# EAGLE library part CON_VFD_IV-6 (library ie13)
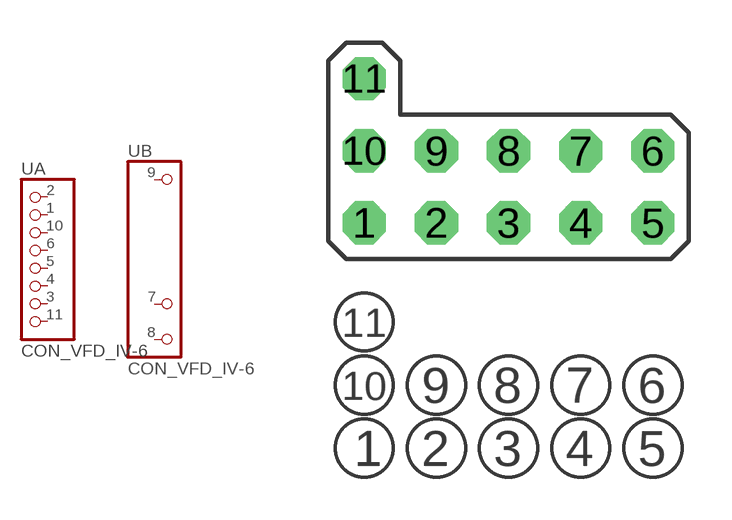
[diagram p0: symbol with the pads of CON_VFD; footprint CON_VFD]

Designator prefix -; gates A=VFD_SEG B=VFD_POW

## CON_VFD_IV-6  [CON_VFD]
1  A:1  pas
2  A:2  pas
3  A:3  pas
4  A:4  pas
5  A:5  pas
6  A:6  pas
7  B:7  pas
8  B:8  pas
9  B:9  pas
10  A:10  pas
11  A:11  pas

## Footprint CON_VFD (pad centres in mm)
PIN HEADER
drill 1.016 octagon: 1 -5.08,-1.27; 2 -2.54,-1.27; 3 0,-1.27; 4 2.54,-1.27; 5 5.08,-1.27; 6 5.08,1.27; 7 2.54,1.27; 8 0,1.27; 9 -2.54,1.27; 10 -5.08,1.27; 11 -5.08,3.81